# EAGLE library part MAX-JTAG (library mita-akiba)
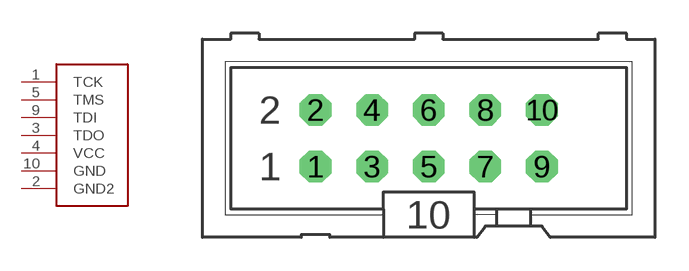
[diagram p6: symbol with the pads of ML10; footprint ML10]

Designator prefix -

## MAX-JTAG  [ML10]
1  TCK
2  GND2
3  TDO
4  VCC
5  TMS
9  TDI
10  GND

## Footprint ML10 (pad centres in mm)
HARTING
drill 0.914 octagon: 1 -5.08,-1.27; 2 -5.08,1.27; 3 -2.54,-1.27; 4 -2.54,1.27; 5 0,-1.27; 6 0,1.27; 7 2.54,-1.27; 8 2.54,1.27; 9 5.08,-1.27; 10 5.08,1.27